# EAGLE library part ATTINY2313 (library Atmel)
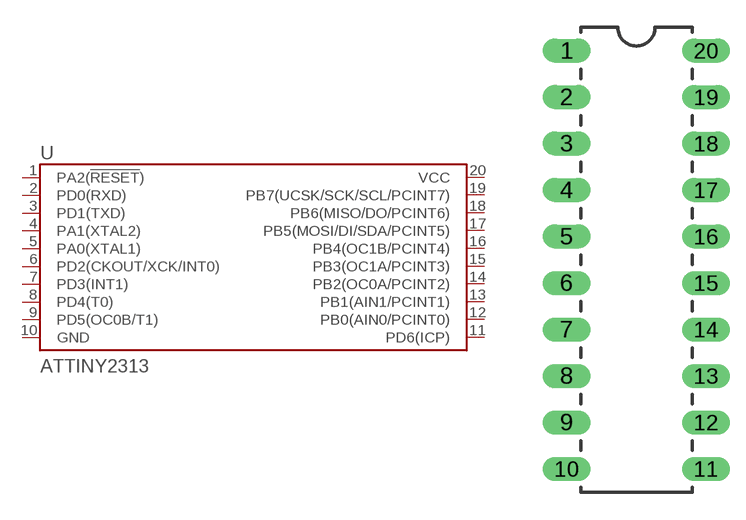
[diagram p3: symbol with the pads of DIP20-LONGPAD; footprint DIP20-LONGPAD]

Designator prefix U

## ATTINY2313-LONGPAD  [DIP20-LONGPAD]
1  PA2(!RESET!)
2  PD0(RXD)
3  PD1(TXD)
4  PA1(XTAL2)
5  PA0(XTAL1)
6  PD2(CKOUT/XCK/INT0)
7  PD3(INT1)
8  PD4(T0)
9  PD5(OC0B/T1)
10  GND
11  PD6(ICP)
12  PB0(AIN0/PCINT0)
13  PB1(AIN1/PCINT1)
14  PB2(OC0A/PCINT2)
15  PB3(OC1A/PCINT3)
16  PB4(OC1B/PCINT4)
17  PB5(MOSI/DI/SDA/PCINT5)
18  PB6(MISO/DO/PCINT6)
19  PB7(UCSK/SCK/SCL/PCINT7)
20  VCC

## Footprint DIP20-LONGPAD (pad centres in mm)
drill 0.813 long: 1 -3.81,10.16; 2 -3.81,7.62; 3 -3.81,5.08; 4 -3.81,2.54; 5 -3.81,0; 6 -3.81,-2.54; 7 -3.81,-5.08; 8 -3.81,-7.62; 9 -3.81,-10.16; 10 -3.81,-12.7; 11 3.81,-12.7; 12 3.81,-10.16; 13 3.81,-7.62; 14 3.81,-5.08; 15 3.81,-2.54; 16 3.81,0; 17 3.81,2.54; 18 3.81,5.08; 19 3.81,7.62; 20 3.81,10.16